# Altium schematic symbol library Passives.schlib: 68 symbols
Pins are listed as number, name and electrical type; pins without a type are passive.

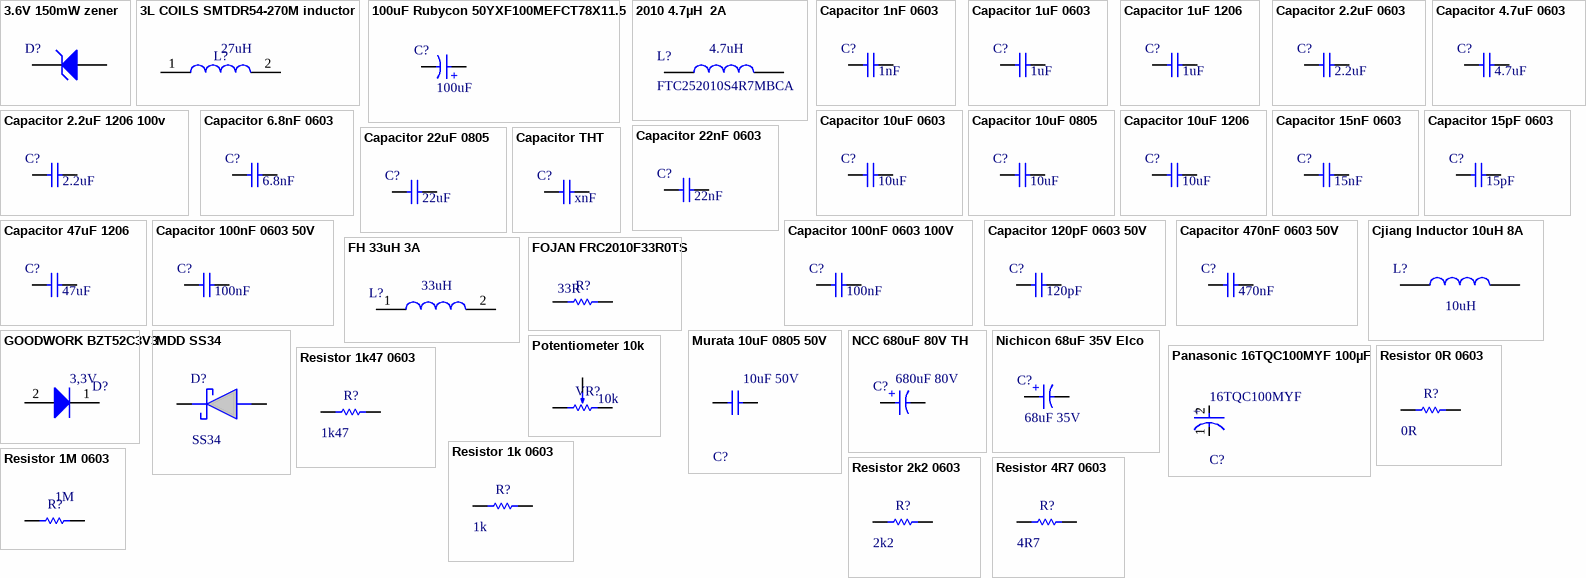
[diagram p0: symbols 3.6V 150mW zener to Resistor 4R7 0603]

## 3.6V 150mW zener
designator D?, comment ROHM EDZVT2R3.6B  (value not drawn)
Independent 3.6V~3.845V 150mW 3.6V SOD-523 Zener Diodes ROHS
footprint ROHM SOD-523 zener
pins: 1 K, 2 A

## 3L COILS SMTDR54-270M inductor
designator L?, comment value 27uH  (hidden comment: COILS SMTDR54-270M)
Manufacturer: 3L Coils
footprint 3L COILS 5.2X5.8MM
pins: 1, 2

## 100uF Rubycon 50YXF100MEFCT78X11.5
designator C?, comment value 100uF  (hidden comment: 50YXF100MEFCT78X11.5)
footprint WURTH THT CAP D8H11.5 - sideways (Aluminum Electrolytic Capacitors, 8x11.5mm)
pins: 1 P, 2 N
text: +

## 2010 4.7µH  2A
designator L?, comment FTC252010S4R7MBCA  value 4.7uH
cjiang FTC252010S4R7MBCA
footprint cjiang FTC252010S4R7MBCA (FTC252010S4R7MBCA)
pins: 1, 2

## Capacitor 1nF 0603
designator C?  value 1nF  (hidden comment: Capacitor 1nF 0603)
footprint Wurth 0603 capacitor (Ceramic Capacitors, body 1.6x0.8mm)
pins: 1, 2

## Capacitor 1uF 0603
designator C?  value 1uF  (hidden comment: Capacitor 1uF 0603)
footprint Wurth 0603 capacitor (Ceramic Capacitors, body 1.6x0.8mm)
pins: 1, 2

## Capacitor 1uF 1206
designator C?  value 1uF  (hidden comment: Capacitor 1uF 1206)
footprint Wurth 1206 Capacitor (Ceramic Capacitors, body 3.2x1.6mm)
pins: 1, 2

## Capacitor 2.2uF 0603
designator C?  value 2.2uF  (hidden comment: Capacitor 2.2uF 0603)
footprint Wurth 0603 capacitor (Ceramic Capacitors, body 1.6x0.8mm)
pins: 1, 2

## Capacitor 2.2uF 1206 100v
designator C?  value 2.2uF  (hidden comment: Capacitor 2.2uF 1206 100v)
footprint Wurth 1206 Capacitor (Ceramic Capacitors, body 3.2x1.6mm)
pins: 1, 2

## Capacitor 4.7uF 0603
designator C?  value 4.7uF  (hidden comment: Capacitor 4.7uF 0603)
footprint Wurth 0603 capacitor (Ceramic Capacitors, body 1.6x0.8mm)
pins: 1, 2

## Capacitor 6.8nF 0603
designator C?  value 6.8nF  (hidden comment: Capacitor 6.8nF 0603)
footprint Wurth 0603 capacitor (Ceramic Capacitors, body 1.6x0.8mm)
pins: 1, 2

## Capacitor 10uF 0603
designator C?  value 10uF  (hidden comment: Capacitor 10uF 0603)
footprint Wurth 0603 capacitor (Ceramic Capacitors, body 1.6x0.8mm)
pins: 1, 2

## Capacitor 10uF 0805
designator C?  value 10uF  (hidden comment: Capacitor 10uF 0805)
footprint Wurth 0805 capacitor (Ceramic Capacitors, body 2x1.25mm)
pins: 1, 2

## Capacitor 10uF 1206
designator C?  value 10uF  (hidden comment: Capacitor 10uF 1206)
footprint Wurth 1206 Capacitor (Ceramic Capacitors, body 3.2x1.6mm)
pins: 1, 2

## Capacitor 15nF 0603
designator C?  value 15nF  (hidden comment: Capacitor 15nF 0603)
footprint Wurth 0603 capacitor (Ceramic Capacitors, body 1.6x0.8mm)
pins: 1, 2

## Capacitor 15pF 0603
designator C?  value 15pF  (hidden comment: Capacitor 15pF 0603)
footprint Wurth 0603 capacitor (Ceramic Capacitors, body 1.6x0.8mm)
pins: 1, 2

## Capacitor 22nF 0603
designator C?  value 22nF  (hidden comment: Capacitor 22nF 0603)
footprint Wurth 0603 capacitor (Ceramic Capacitors, body 1.6x0.8mm)
pins: 1, 2

## Capacitor 22uF 0805
designator C?  value 22uF  (hidden comment: Capacitor 22uF 0805)
footprint Wurth 0805 capacitor (Ceramic Capacitors, body 2x1.25mm)
pins: 1, 2

## Capacitor 47uF 1206
designator C?  value 47uF  (hidden comment: Capacitor 47uF 1206)
footprint Wurth 1206 Capacitor (Ceramic Capacitors, body 3.2x1.6mm)
pins: 1, 2

## Capacitor 100nF 0603 50V
designator C?  value 100nF  (hidden comment: Capacitor 100nF 0603 50V)
footprint Wurth 0603 capacitor (Ceramic Capacitors, body 1.6x0.8mm)
pins: 1, 2

## Capacitor 100nF 0603 100V
designator C?, comment value 100nF  (hidden comment: Generic Capacitor 100nF 0603 100V)
footprint Wurth 0603 capacitor (Ceramic Capacitors, body 1.6x0.8mm)
pins: 1, 2

## Capacitor 120pF 0603 50V
designator C?  value 120pF  (hidden comment: Capacitor 120pF 0603 50V)
footprint Wurth 0603 capacitor (Ceramic Capacitors, body 1.6x0.8mm)
pins: 1, 2

## Capacitor 470nF 0603 50V
designator C?  value 470nF  (hidden comment: Capacitor 470nF 0603 50V)
footprint Wurth 0603 capacitor (Ceramic Capacitors, body 1.6x0.8mm)
pins: 1, 2

## Capacitor THT
designator C?  value xnF  (hidden comment: Capacitor THT)
footprint 5MM THT ceramic cap
pins: 1, 2

## Cjiang Inductor 10uH 8A
designator L?  value 10uH  (hidden comment: Cjiang Inductor 10uH 8A)
Unchecked FXL1050-100-M 8A 10uH Integrated molded inductor ±20% 10A SMD, 10x11.5mm Power Inductors ROHS
footprint Cjiang 11.5x10mm inductor (Precision Wire Wound Inductor, 2-Leads, Body 11,50x10,00mm, IPC Medium Density)
pins: 1, 2

## FH 33uH 3A
designator L?  value 33uH  (hidden comment: FH 33uH 3A)
footprint FH MS127-330MT (Precision Wire Wound Inductor, 2-Leads, Body 12,20x12,20mm, IPC Medium Density)
pins: 1, 2

## FOJAN FRC2010F33R0TS
designator R?, comment value 33R  (hidden comment: FRC2010F33R0TS)
33ohm ±1% 200V ±100ppm/℃ , 750mW, 1010; Manufacturer: Fojan
footprint FOJAN 2010 Resistor (FChip Resistor, 2-Leads, Body 5,00x2,50mm, IPC Medium Density)
pins: 1, 2

## GOODWORK BZT52C3V3
designator D?, comment value 3,3V  (hidden comment: BZT52C3V3)
footprint SOD-123
pins: 1 K, 2 A

## MDD SS34
designator D?, comment SS34
SS34 Schottky Barrier Diodes (SBD) SMA(DO-214AC) RoHS; Manufacturer_Name: MDD; Geometry.Height: 2.44mm; Manufacturer_Part_Number: SS34; Mouser Part Number: *; Mouser Price/Stock: *; Arrow Part Number: *; Arrow Price/Stock: *; Datasheet Link: https://datasheet.lcsc.com/szlcsc/MDD-Jiangsu-Yutai-Elec-SS34_C13762.pdf
footprint MDD DO-214AC diode
pins: 1 K, 2 A

## Murata 10uF 0805 50V
designator C?, comment value 10uF 50V  (hidden comment: GRM21BR61H106KE43L)
Chip Multilayer Ceramic Capacitors for General Purpose, 0805, 10uF, X5R, 15%, 10%, 50V; Dielectric: X5R; Tolerance: 10%; Thickness: 1.25mm; Length: 2mm; Width: 1.25mm; Voltage Rating (DC): 50V
footprint MURATA 0805 CAPACITOR
pins: 1, 2

## NCC 680uF 80V TH
designator C?, comment value 680uF 80V  (hidden comment: NCC EKY-800ELL681MM25S)
Bulk/Capacitor, Aluminum, 80 V, Cap.680 , Dia.18 , Leng.25 |Chemi-Con EKY-800ELL681MM25S; Manufacturer: United Chemi-Con; Dielectric Material: Aluminium; Dissipation Factor: 9%; Impedance: 36mΩ; Lead/Base Style: Straight; Leakage Current: 544µA; Life (Hours): 10000hours; Polarity: Polar; Ripple Current: 1.75A; Test Frequency: 100MHz; Tolerance: 20%; Voltage: 80V; Supplier: DigiKey; Supplier Part Number: 565-EKY-800ELL681MM25S-ND; Manufacturer Part Number: EKY-800ELL681MM25S; RoHS: Compliant; Category: Aluminum Electrolytic Capacitors; Stock: 70; Pricing: 1=2,66, 10=1,772, 50=1,4002, 100=1,283, 500=1,08148, 1000=1,01807, 2500=0,95043, 5000=0,90925 (USD); Case/Package: Radial; China RoHS: Compliant; Contact Plating: Tin; Diameter: 18mm; Height: 25mm; Height - Seated (Max): 26.4922mm; Lead Free: Lead Free; Lead Pitch: 7.493mm; Length: 25mm; Lifecycle Status: Production; Max Operating Temperature: 105°C; Min Operating Temperature: -40°C; Mounting Technology: Through Hole; Pins: 2; Number of Terminals: 2; Packaging: Bulk; Radiation Hardening: No; REACH SVHC: No; Schedule B: 853222***; Terminal Pitch: 7.5mm; Termination: Radial; Voltage Rating: 80V; Voltage Rating (DC): 80V; ComponentLink1URL: https://datasheet.octopart.com:443/EKY-800ELL681MM25S-Nippon-Chemicon-datasheet-182100250.pdf?src-supplier=IHS; ComponentLink1Description: https://datasheet.octopart.com:443/EKY-800ELL681MM25S-Nippon-Chemicon-datasheet-182100250.pdf?src-supplier=IHS; ComponentLink2URL: https://datasheet.octopart.com:443/EKY-800ELL681MM25S-United-Chemi-Con-datasheet-33024962.pdf?src-supplier=IHS; ComponentLink2Description: https://datasheet.octopart.com:443/EKY-800ELL681MM25S-United-Chemi-Con-datasheet-33024962.pdf?src-supplier=IHS; ComponentLink3URL: https://datasheet.octopart.com:443/EKY-800ELL681MM25S-United-Chemi-Con-datasheet-153683879.pdf?src-supplier=United+Chemi-Con; ComponentLink3Description: https://datasheet.octopart.com:443/EKY-800ELL681MM25S-United-Chemi-Con-datasheet-153683879.pdf?src-supplier=United+Chemi-Con; ComponentLink4URL: https://datasheet.octopart.com:443/EKY-800ELL681MM25S-United-Chemi-Con-datasheet-154730619.pdf?src-supplier=Electro+Sonic; ComponentLink4Description: https://datasheet.octopart.com:443/EKY-800ELL681MM25S-United-Chemi-Con-datasheet-154730619.pdf?src-supplier=Electro+Sonic
footprint WURTH THT CAP D18H25 (Aluminum Electrolytic Capacitors, 18x25mm)
footprint WURTH THT CAP D18H25 - sideways (Aluminum Electrolytic Capacitors, 18x25mm)
pins: 1 P, 2 N
text: +

## Nichicon 68uF 35V Elco
designator C?  value 68uF 35V  (hidden comment: Nichicon 68uF 35V Elco)
footprint Wurth D6.3x7.7mm (Aluminum Hybrid Polymer Capacitor, SMT, body diameter 6.3mm)
pins: 1 P, 2 N
text: +

## Panasonic 16TQC100MYF 100µF
designator C?, comment 16TQC100MYF
Molded Tantalum Polymer Capacitor 100uF 20% 16V life 2000Hours SMD 2917; Ripple Current: 1.8A; ESR (Equivalent Series Resistance): 50mR; Dissipation Factor: 10%; Polarity: Polar; Leakage Current: 160uA; Voltage: 16V; Min Operating Temperature: -55°C; Width: 4.3mm; Package Quantity: 3000; Construction: Flat; Life (Hours): 2000Hour; Packaging: Tape and Reel; Height: 1.9mm; Radiation Hardening: No; Depth: 4.3mm; Features: General Purpose; RoHS Compliant: Yes; Voltage Rating (DC): 16V; Tolerance: 20%; Capacitance: 100uF; Case Code (Metric): 7343; Length: 7.3mm; Case Code (Imperial): 2917; Number of Pins: 2; Mount: Surface Mount; Series: POSCAP™ TQC; Height - Seated (Max): 0.079inch; Lead Free: Lead Free; Termination: SMD/SMT; REACH SVHC: No SVHC; Case/Package: 2917; Voltage Rating: 16V; Material: Polymer; Max Operating Temperature: 105°C
footprint Panasonic 16TQC100MYF edit
pins: 1 C, 2 A
text: +

## Potentiometer 10k
designator VR?, comment value 10k  (hidden comment: ALPSALPINE RK09K11300DR)
footprint ALPSALPINE RK09K11300DR (10k vertical potentiometer)
pins: 1, 2, 3

## Resistor 0R 0603
designator R?  value 0R  (hidden comment: Resistor 0R 0603)
footprint Wurth 0603 Resistor (Fixed Thick Film, body 1.60 x 0.80 mm)
pins: 1, 2

## Resistor 1k47 0603
designator R?  value 1k47  (hidden comment: Resistor 1k47 0603)
footprint Wurth 0603 Resistor (Fixed Thick Film, body 1.60 x 0.80 mm)
pins: 1, 2

## Resistor 1k 0603
designator R?  value 1k  (hidden comment: Resistor 1k 0603)
footprint Wurth 0603 Resistor (Fixed Thick Film, body 1.60 x 0.80 mm)
pins: 1, 2

## Resistor 1M 0603
designator R?  value 1M  (hidden comment: Resistor 1M 0603)
footprint Wurth 0603 Resistor (Fixed Thick Film, body 1.60 x 0.80 mm)
pins: 1, 2

## Resistor 2k2 0603
designator R?  value 2k2  (hidden comment: Resistor 2k2 0603)
footprint Wurth 0603 Resistor (Fixed Thick Film, body 1.60 x 0.80 mm)
pins: 1, 2

## Resistor 4R7 0603
designator R?, comment value 4R7  (hidden comment: Resistor 4k7 0603)
footprint Wurth 0603 Resistor (Fixed Thick Film, body 1.60 x 0.80 mm)
pins: 1, 2

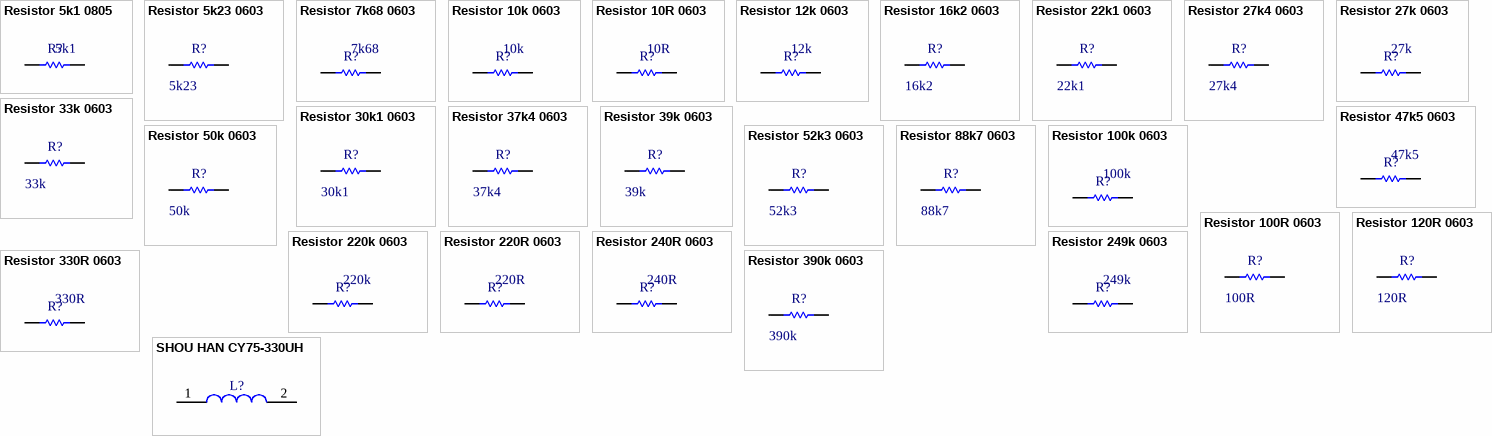
[diagram p1: symbols Resistor 5k1 0805 to SHOU HAN CY75-330UH]

## Resistor 5k1 0805
designator R?  value 5k1  (hidden comment: Resistor 5k1 0805)
footprint 0805 Resistor
pins: 1, 2

## Resistor 5k23 0603
designator R?  value 5k23  (hidden comment: Resistor 5k23 0603)
footprint Wurth 0603 Resistor (Fixed Thick Film, body 1.60 x 0.80 mm)
pins: 1, 2

## Resistor 7k68 0603
designator R?  value 7k68  (hidden comment: Resistor 7k68 0603)
footprint Wurth 0603 Resistor (Fixed Thick Film, body 1.60 x 0.80 mm)
pins: 1, 2

## Resistor 10k 0603
designator R?  value 10k  (hidden comment: Resistor 10k 0603)
footprint Wurth 0603 Resistor (Fixed Thick Film, body 1.60 x 0.80 mm)
pins: 1, 2

## Resistor 10R 0603
designator R?  value 10R  (hidden comment: Resistor 10R 0603)
footprint Wurth 0603 Resistor (Fixed Thick Film, body 1.60 x 0.80 mm)
pins: 1, 2

## Resistor 12k 0603
designator R?  value 12k  (hidden comment: Resistor 12k 0603)
footprint Wurth 0603 Resistor (Fixed Thick Film, body 1.60 x 0.80 mm)
pins: 1, 2

## Resistor 16k2 0603
designator R?  value 16k2  (hidden comment: Resistor 16k2 0603)
footprint Wurth 0603 Resistor (Fixed Thick Film, body 1.60 x 0.80 mm)
pins: 1, 2

## Resistor 22k1 0603
designator R?  value 22k1  (hidden comment: Resistor 22k1 0603)
footprint Wurth 0603 Resistor (Fixed Thick Film, body 1.60 x 0.80 mm)
pins: 1, 2

## Resistor 27k4 0603
designator R?  value 27k4  (hidden comment: Resistor 27k4 0603)
footprint Wurth 0603 Resistor (Fixed Thick Film, body 1.60 x 0.80 mm)
pins: 1, 2

## Resistor 27k 0603
designator R?  value 27k  (hidden comment: Resistor 27k 0603)
footprint Wurth 0603 Resistor (Fixed Thick Film, body 1.60 x 0.80 mm)
pins: 1, 2

## Resistor 30k1 0603
designator R?  value 30k1  (hidden comment: Resistor 30k1 0603)
footprint Wurth 0603 Resistor (Fixed Thick Film, body 1.60 x 0.80 mm)
pins: 1, 2

## Resistor 33k 0603
designator R?  value 33k  (hidden comment: Resistor 33k 0603)
footprint Wurth 0603 Resistor (Fixed Thick Film, body 1.60 x 0.80 mm)
pins: 1, 2

## Resistor 37k4 0603
designator R?  value 37k4  (hidden comment: Resistor 37k4 0603)
footprint Wurth 0603 Resistor (Fixed Thick Film, body 1.60 x 0.80 mm)
pins: 1, 2

## Resistor 39k 0603
designator R?  value 39k  (hidden comment: Resistor 39k 0603)
footprint Wurth 0603 Resistor (Fixed Thick Film, body 1.60 x 0.80 mm)
pins: 1, 2

## Resistor 47k5 0603
designator R?  value 47k5  (hidden comment: Resistor 47k5 0603)
footprint Wurth 0603 Resistor (Fixed Thick Film, body 1.60 x 0.80 mm)
pins: 1, 2

## Resistor 50k 0603
designator R?  value 50k  (hidden comment: Resistor 50k 0603)
footprint Wurth 0603 Resistor (Fixed Thick Film, body 1.60 x 0.80 mm)
pins: 1, 2

## Resistor 52k3 0603
designator R?  value 52k3  (hidden comment: Resistor 52k3 0603)
footprint Wurth 0603 Resistor (Fixed Thick Film, body 1.60 x 0.80 mm)
pins: 1, 2

## Resistor 88k7 0603
designator R?  value 88k7  (hidden comment: Resistor 88k7 0603)
footprint Wurth 0603 Resistor (Fixed Thick Film, body 1.60 x 0.80 mm)
pins: 1, 2

## Resistor 100k 0603
designator R?  value 100k  (hidden comment: Resistor 100k 0603)
footprint Wurth 0603 Resistor (Fixed Thick Film, body 1.60 x 0.80 mm)
pins: 1, 2

## Resistor 100R 0603
designator R?  value 100R  (hidden comment: Resistor 100R 0603)
footprint Wurth 0603 Resistor (Fixed Thick Film, body 1.60 x 0.80 mm)
pins: 1, 2

## Resistor 120R 0603
designator R?  value 120R  (hidden comment: Resistor 120R 0603)
footprint Wurth 0603 Resistor (Fixed Thick Film, body 1.60 x 0.80 mm)
pins: 1, 2

## Resistor 220k 0603
designator R?  value 220k  (hidden comment: Resistor 220k 0603)
footprint Wurth 0603 Resistor (Fixed Thick Film, body 1.60 x 0.80 mm)
pins: 1, 2

## Resistor 220R 0603
designator R?  value 220R  (hidden comment: Resistor 220R 0603)
footprint Wurth 0603 Resistor (Fixed Thick Film, body 1.60 x 0.80 mm)
pins: 1, 2

## Resistor 240R 0603
designator R?  value 240R  (hidden comment: Resistor 240R 0603)
footprint Wurth 0603 Resistor (Fixed Thick Film, body 1.60 x 0.80 mm)
pins: 1, 2

## Resistor 249k 0603
designator R?  value 249k  (hidden comment: Resistor 249k 0603)
footprint Wurth 0603 Resistor (Fixed Thick Film, body 1.60 x 0.80 mm)
pins: 1, 2

## Resistor 330R 0603
designator R?  value 330R  (hidden comment: Resistor 330R 0603)
footprint Wurth 0603 Resistor (Fixed Thick Film, body 1.60 x 0.80 mm)
pins: 1, 2

## Resistor 390k 0603
designator R?  value 390k  (hidden comment: Resistor 390k 0603)
footprint Wurth 0603 Resistor (Fixed Thick Film, body 1.60 x 0.80 mm)
pins: 1, 2

## SHOU HAN CY75-330UH
designator L?, comment CY75-330UH  (value not drawn)
Manufacturer: 3L Coils; Value: 330uH
footprint SHOU HAN 7.8X7MM
pins: 1, 2